# Altium footprint library JS7628_base_board_v1.5.1.PcbLib: 34 footprints (part 1 of 3)
Each footprint in its own frame and in the unit in brackets; x right, y up, seen from the top. Pads: shape width x height; smd on the part's side, far side on the other; paste and mask are expansions set on the pad; w line width, h text height; cw(c..) or ccw(c..) is an arc to the next point about the centre after c.
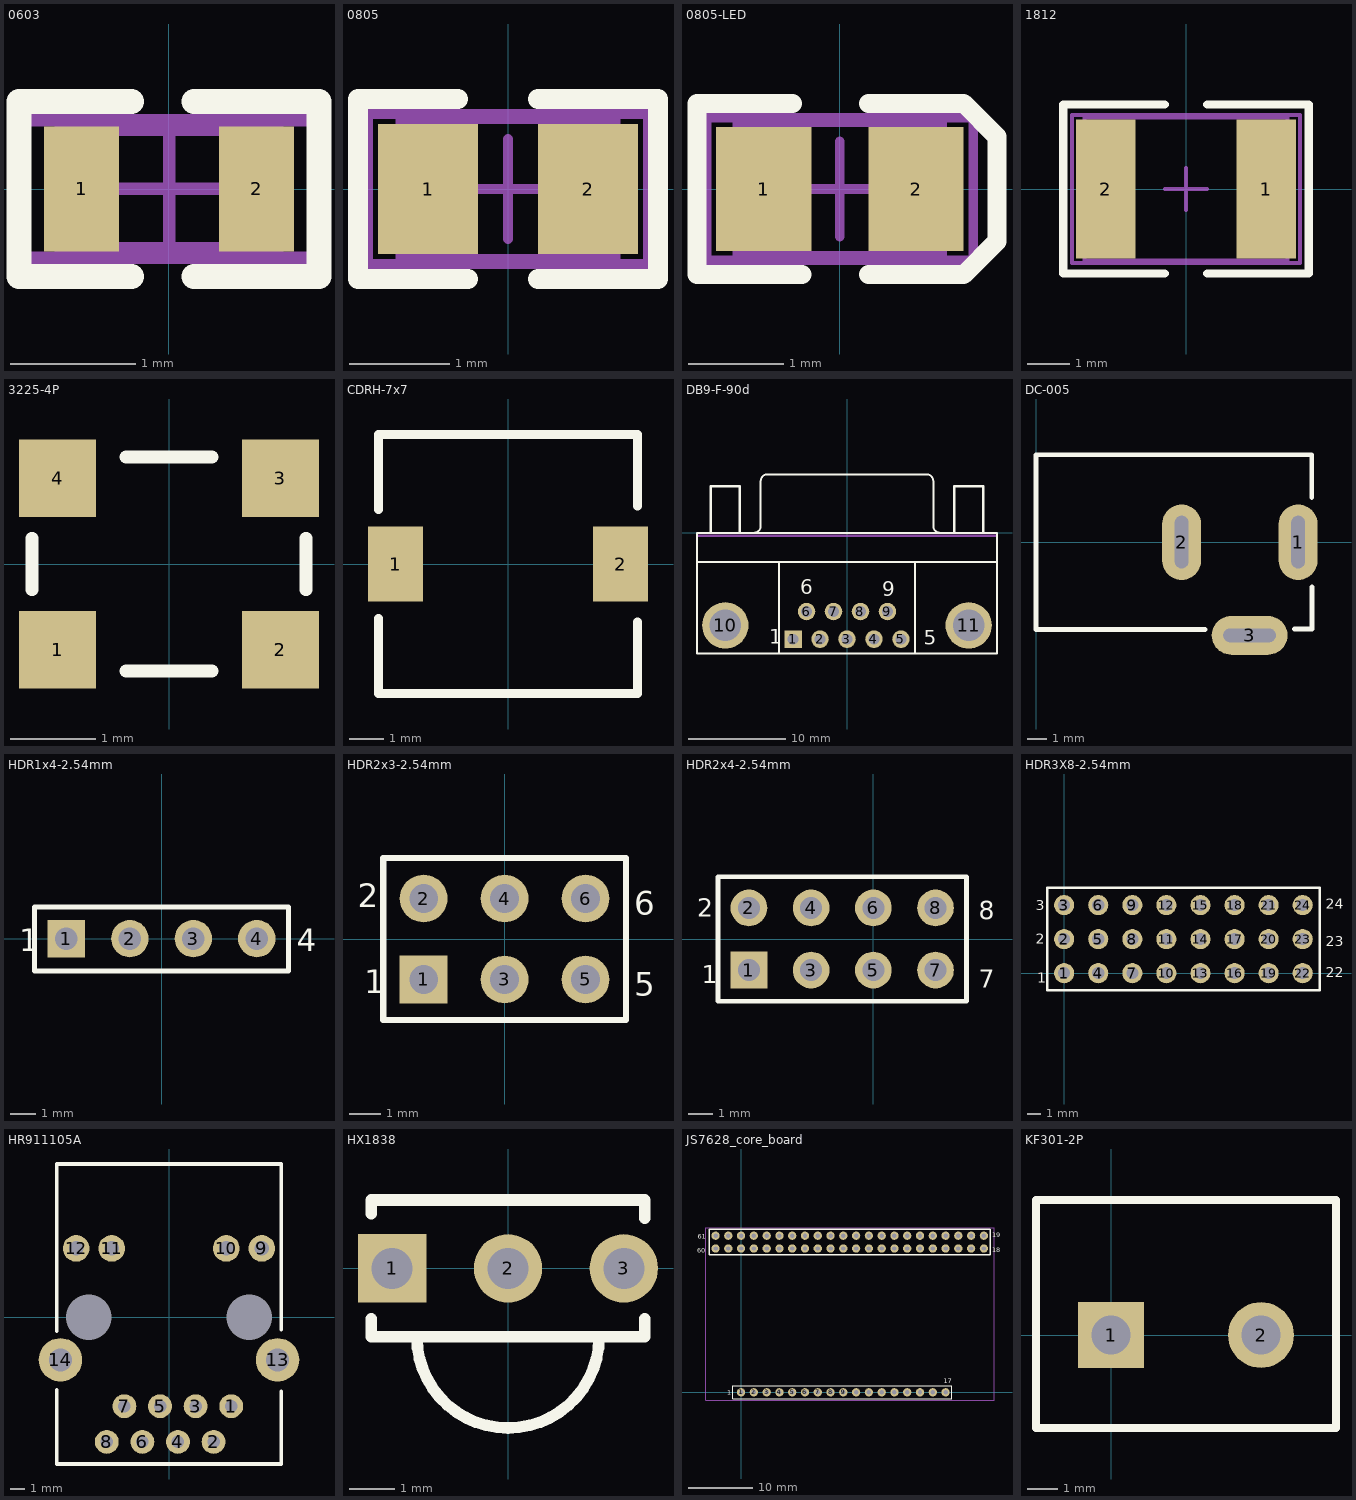
[diagram p0: the footprints below, top view; thin cyan lines are the x and y axes]

## 0603 [mm]
pads (2):
  rect 0.6x1 smd: 1(-0.7,0) 2(0.7,0)
Top Overlay:
  lines w0.2: -0.3,-0.7 -1.2,-0.7 -1.2,0.7 -0.3,0.7 ; 0.2,-0.7 1.2,-0.7 1.2,0.7 0.2,0.7
Mechanical 13:
  lines w0.1: -0.875,-0.475 -0.875,0.475 0.875,0.475 0.875,-0.475 -0.875,-0.475
Mechanical 15:
  lines w0.1: -0.475,0 0.475,0 ; 0,-0.475 0,0.475 ; -1.2,-0.55 -1.2,0.55 1.2,0.55 1.2,-0.55 -1.2,-0.55
3D body: height 0.6, standoff 0, extent -0.875,-0.475 0.875,0.475

## 0805 [mm]
pads (2):
  rect 1x1.3 smd: 1(-0.8,0) 2(0.8,0)
Top Overlay:
  lines w0.2: -0.5,0.9 -1.5,0.9 -1.5,-0.9 -0.4,-0.9 ; 0.3,-0.9 1.5,-0.9 1.5,0.9 0.3,0.9
Mechanical 13:
  lines w0.1: -1.075,-0.7 -1.075,0.7 1.075,0.7 1.075,-0.7 -1.075,-0.7
Mechanical 15:
  lines w0.1: -0.5,0 0.5,0 ; 0,-0.5 0,0.5 ; -1.4,-0.75 -1.4,0.75 1.4,0.75 1.4,-0.75 -1.4,-0.75
3D body: height 1.2, standoff 0, extent -1.075,-0.7 1.075,0.7

## 0805-LED [mm]
pads (2):
  rect 1x1.3 smd: 1(-0.8,0) 2(0.8,0)
Top Overlay:
  lines w0.2: -0.5,0.9 -1.5,0.9 -1.5,-0.9 -0.4,-0.9 ; 0.3,-0.9 1.3,-0.9 1.65,-0.55 1.65,0.55 1.3,0.9 0.3,0.9
Mechanical 13:
  lines w0.1: -1.075,-0.7 1.075,-0.7 1.075,0.7 -1.075,0.7 -1.075,-0.7
Mechanical 15:
  lines w0.1: -0.5,0 0.5,0 ; 0,-0.5 0,0.5 ; -1.4,-0.75 1.4,-0.75 1.4,0.75 -1.4,0.75 -1.4,-0.75
3D body: height 2.54, standoff 0, extent -1.075,-0.7 1.075,0.7

## 1812 [mm]
pads (2):
  rect 1.4x3.3 smd: 1(1.9,0) 2(-1.9,0)
Top Overlay:
  lines w0.2: -0.5,-2 -2.9,-2 -2.9,2 -0.5,2 ; 0.5,-2 2.9,-2 2.9,2 0.5,2
Mechanical 13:
  lines w0.1: -2.4,-1.7 -2.4,1.7 2.4,1.7 2.4,-1.7 -2.4,-1.7
Mechanical 15:
  lines w0.1: -0.5,0 0.5,0 ; 0,-0.5 0,0.5 ; -2.7,-1.75 -2.7,1.75 2.7,1.75 2.7,-1.75 -2.7,-1.75
3D body: height 1.4, standoff 0, extent -2.4,-1.7 2.4,1.7

## 3225-4P [mm]
pads (4):
  rect 0.9x0.9 smd: 1(-1.3,-1) 2(1.3,-1) 3(1.3,1) 4(-1.3,1)
Top Overlay:
  lines w0.15: -1.6,-0.3 -1.6,0.3 ; -0.5,-1.25 0.5,-1.25 ; -0.5,1.25 0.5,1.25 ; 1.6,-0.3 1.6,0.3
3D body: height 0.6, standoff 0, extent -1.6,-1.3 1.6,1.2

## CDRH-7x7 [mm]
pads (2):
  rect 1.6x2.2 smd: 1(-3.3,0) 2(3.3,0)
Top Overlay:
  lines w0.254: -3.8,-1.6 -3.8,-3.8 3.8,-3.8 3.8,-1.7 ; -3.8,1.6 -3.8,3.8 3.8,3.8 3.8,1.7
3D body: height 5, standoff 0, extent -3.8,-3.8 3.8,3.8

## DB9-F-90d [mm]
pads (11):
  rect 1.8x1.8 hole 1.09: 1(-5.54,-10.92)
  round 1.8 hole 1.09: 2(-2.77,-10.92) 3(0,-10.92) 4(2.77,-10.92) 5(5.54,-10.92) 6(-4.155,-8.08) 7(-1.385,-8.08) 8(1.385,-8.08) 9(4.155,-8.08)
  round 4.76 hole 3.26: 10(-12.495,-9.5) 11(12.495,-9.5)
Top Overlay:
  lines w0.2: -15.4,-3 15.4,-3 ; -9.56,0.005 ccw(c-9.56,0.7) -8.865,0.7 -8.865,5.3 ; -8.86,5.305 cw(c-8.165,5.305) -8.165,6 8.165,6 cw(c8.165,5.305) 8.86,5.305 ; -7,-12.4 -7,-3 ; 7,-12.4 7,-3 ; 8.865,5.3 8.865,0.7 ccw(c9.56,0.7) 9.56,0.005 ; -15.4,-12.4 -15.4,0 15.4,0 15.4,-12.4 -15.4,-12.4
  lines w0.254: -14,0 -14,4.8 -11,4.8 -11,0 ; 11,0 11,4.8 14,4.8 14,0.1
  text "1" at -8,-11.4 h1.5
  text "5" at 7.9,-11.5 h1.5
  text "9" at 3.6,-6.5 h1.5
  text "6" at -4.8,-6.3 h1.5
Mechanical 1:
  lines w0.254: -15.4,-0.3 15.4,-0.3
  text "PCB EDGE" at -4.8,-1.7 h0.9
3D body: height 7.75, standoff 4.75, extent 11.012,0.1 14,4.9
3D body: height 7.75, standoff 4.75, extent -13.988,0 -11,4.8
3D body: height 12.5, standoff 0, extent -8.95,-0.1 8.95,6.1
3D body: height 12.5, standoff 0, extent -15.5,-12.5 15.5,0

## DC-005 [mm]
pads (3):
  oval 2x3.9 hole 0.7 slot 2.7 at 90 deg: 1(13.5,0) 2(7.5,0)
  oval 3.9x2 hole 0.7 slot 2.7 at 0 deg: 3(11,-4.8)
Top Overlay:
  lines w0.254: 8.7,-4.5 0,-4.5 0,4.5 14.2,4.5 14.2,2.3 ; 13.3,-4.476 14.224,-4.476 14.224,-2.3
3D body: height 11, standoff 0, extent 0,-4.5 14.2,4.5

## HDR1x4-2.54mm [mm]
pads (4):
  rect 1.5x1.5 hole 0.9: 1(-3.81,0)
  round 1.5 hole 0.9: 2(-1.27,0) 3(1.27,0) 4(3.81,0)
Top Overlay:
  lines w0.2: -5.08,-1.3 5.08,-1.3 5.08,1.27 -5.08,1.27 -5.08,-1.3
  text "4" at 5.4,-0.5 h0.9
  text "1" at -5.71,-0.5 h0.9
3D body: height 8, standoff 0, extent -5.08,-1.3 5.08,1.27

## HDR2x3-2.54mm [mm]
pads (6):
  rect 1.5x1.5 hole 0.9: 1(-2.54,-1.27)
  round 1.5 hole 0.9: 2(-2.54,1.27) 3(0,-1.27) 4(0,1.27) 5(2.54,-1.27) 6(2.54,1.27)
Top Overlay:
  lines w0.2: -1.058,-2.54 3.81,-2.54 ; 3.81,-2.54 -3.81,-2.54 -3.81,2.54 3.81,2.54 3.81,-2.54
  text "1" at -4.4,-1.7 h0.75
  text "2" at -4.6,1 h0.75
  text "5" at 4.064,-1.778 h0.75
  text "6" at 4.064,0.762 h0.75
3D body: height 8, standoff 0, extent -3.8,-2.5 3.8,2.5

## HDR2x4-2.54mm [mm]
pads (8):
  rect 1.5x1.5 hole 0.9: 1(-5.08,-1.27)
  round 1.5 hole 0.9: 2(-5.08,1.27) 3(-2.54,-1.27) 4(-2.54,1.27) 5(0,-1.27) 6(0,1.27) 7(2.54,-1.27) 8(2.54,1.27)
Top Overlay:
  lines w0.2: -6.35,-2.54 -6.35,2.54 3.81,2.54 3.81,-2.54 -6.35,-2.54
  text "2" at -7.2,0.9 h0.75
  text "1" at -7,-1.8 h0.75
  text "7" at 4.3,-2 h0.75
  text "8" at 4.3,0.8 h0.75
3D body: height 8, standoff 0, extent -6.3,-2.54 3.81,2.54

## HDR3X8-2.54mm [mm]
pads (24):
  round 1.5 hole 0.9: 1(0,0) 2(0,2.54) 3(0,5.08) 4(2.54,0) 5(2.54,2.54) 6(2.54,5.08) 7(5.08,0) 8(5.08,2.54) 9(5.08,5.08) 10(7.62,0) 11(7.62,2.54) 12(7.62,5.08) 13(10.16,0) 14(10.16,2.54) 15(10.16,5.08) 16(12.7,0) 17(12.7,2.54) 18(12.7,5.08) 19(15.24,0) 20(15.24,2.54) 21(15.24,5.08) 22(17.78,0) 23(17.78,2.54) 24(17.78,5.08)
Top Overlay:
  lines w0.2: -1.27,-1.27 -1.27,6.37 19.05,6.37 19.05,-1.27 -1.27,-1.27
  text "24" at 19.512,4.818 h0.75
  text "3" at -2.1,4.7 h0.75
  text "2" at -2.1,2.2 h0.75
  text "1" at -2,-0.7 h0.75
  text "22" at 19.5,-0.3 h0.75
  text "23" at 19.5,2 h0.75
3D body: height 8, standoff 0, extent -1.27,-1.25 19.05,6.37

## HR911105A [mm]
pads (16):
  round 1.7 hole 0.89: 1(4.44,-6.36) 2(3.18,-8.9) 3(1.9,-6.36) 4(0.64,-8.9) 5(-0.64,-6.36) 6(-1.9,-8.9) 7(-3.18,-6.36) 8(-4.44,-8.9)
  round 1.9 hole 1.02: 9(6.625,4.9) 10(4.085,4.9) 11(-4.085,4.9) 12(-6.625,4.9)
  round 3.1 hole 1.63: 13(7.745,-3.05) 14(-7.745,-3.05)
  round 0 hole 3.25: ""(-5.715,0) ""(5.715,0)
Top Overlay:
  lines w0.254: -8,-5.2 -8,-10.48 8,-10.48 8,-5.3 ; -8,-1 -8,10.92 8,10.92 8,-0.9
3D body: height 13.5, standoff 0, extent -8,-10.5 8,10.9

## HX1838 [mm]
pads (3):
  rect 1.5x1.5 hole 0.9: 1(-2.54,0)
  round 1.5 hole 0.9: 2(0,0) 3(2.54,0)
Top Overlay:
  lines w0.254: -3,-1.1 -3,-1.5 3,-1.5 3,-1.1 ; -3,1.2 -3,1.5 3,1.5 3,1.1 ; -2,-1.5 ccw(c0,-1.5) 2,-1.5
3D body: height 7, standoff 0, extent -3,-1.5 3,1.5
3D body: height 7, standoff 0, extent -2.5,-3.6 2.48,1.39

## JS7628_core_board [mm] "61P,2.0mm"
pads (61):
  round 1.3 hole 0.7: 1(0,0) 2(2,0) 3(4,0) 4(6,0) 5(8,0) 6(10,0) 7(12,0) 8(14,0) 9(16,0) 10(18,0) 11(20,0) 12(22,0) 13(24,0) 14(26,0) 15(28,0) 16(30,0) 17(32,0) 18(38,22.5) 19(38,24.5) 20(36,22.5) 21(36,24.5) 22(34,22.5) 23(34,24.5) 24(32,22.5) 25(32,24.5) 26(30,22.5) 27(30,24.5) 28(28,22.5) 29(28,24.5) 30(26,22.5) 31(26,24.5) 32(24,22.5) 33(24,24.5) 34(22,22.5) 35(22,24.5) 36(20,22.5) 37(20,24.5) 38(18,22.5) 39(18,24.5) 40(16,22.5) 41(16,24.5) 42(14,22.5) 43(14,24.5) 44(12,22.5) 45(12,24.5) 46(10,22.5) 47(10,24.5) 48(8,22.5) 49(8,24.5) 50(6,22.5) 51(6,24.5) 52(4,22.5) 53(4,24.5) 54(2,22.5) 55(2,24.5) 56(0,22.5) 57(0,24.5) 58(-2,22.5) 59(-2,24.5) 60(-4,22.5) 61(-4,24.5)
Top Overlay:
  lines w0.15: -1.3,-1 -1.3,1 33,1 33,-1 -1.3,-1
  lines w0.254: -5,21.5 39,21.5 39,25.5 -4.09,25.5 -5,25.5 -5,23.64 -5,21.5
  text "17" at 31.7,1.4 h0.75
  text "1" at -2.2,-0.4 h0.75
  text "18" at 39.3,21.9 h0.75
  text "19" at 39.3,24.3 h0.75
  text "60" at -6.9,21.8 h0.75
  text "61" at -6.8,24 h0.75
Mechanical 15:
  lines w0.15: -5.5,-1.25 -5.5,25.75 39.6,25.75 39.6,-1.25 -5.5,-1.25
3D body: height 4.3, standoff 0, extent -5,21.5 39,25.5
3D body: height 4.3, standoff 0, extent -1.3,-1 33,1

## KF301-2P [mm] "2P-5mm"
pads (2):
  rect 2.2x2.2 hole 1.3: 1(0,0)
  round 2.2 hole 1.3: 2(5,0)
Top Overlay:
  lines w0.254: -2.5,-3.1 -2.5,4.5 7.5,4.5 7.5,-3.1 -2.5,-3.1
3D body: height 10, standoff 0, extent -2.5,-3.1 7.5,4.5